# Altium footprint library Batarey_connector.PcbLib: 1 footprints
Each footprint in its own frame and in the unit in brackets; x right, y up, seen from the top. Pads: shape width x height; smd on the part's side, far side on the other; paste and mask are expansions set on the pad; w line width, h text height; cw(c..) or ccw(c..) is an arc to the next point about the centre after c.
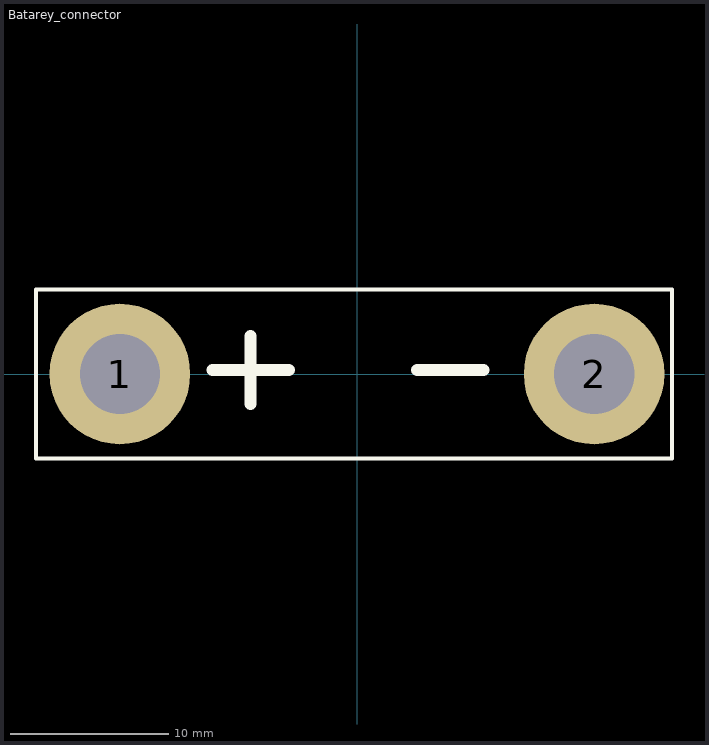
[diagram p0: the footprint, top view; thin cyan lines are the x and y axes]

## Batarey_connector [mm]
pads (2):
  round 8.89 hole 5.08: 1(-15,0) 2(15,0)
Top Overlay:
  lines w0.254: -20.32,-5.334 19.939,-5.334 19.939,5.334 -20.32,5.334 -20.32,-5.334
  lines w0.762: -9.144,0.254 -4.318,0.254 ; -6.731,-1.905 -6.731,2.413 ; 3.81,0.254 8.001,0.254
Bottom Overlay:
  lines w0.508: -20.32,-5.334 19.939,-5.334 19.939,5.334 -20.32,5.334 -20.32,-5.334
  lines w0.762: -9.271,0.127 -4.445,0.127 ; -6.858,-2.032 -6.858,2.286 ; 3.81,0.254 8.001,0.254